# EAGLE library part MCP4131 (library SteelCaveRobotics-DigitalIC)
Microchip MCP41X1 SPI Digital POT
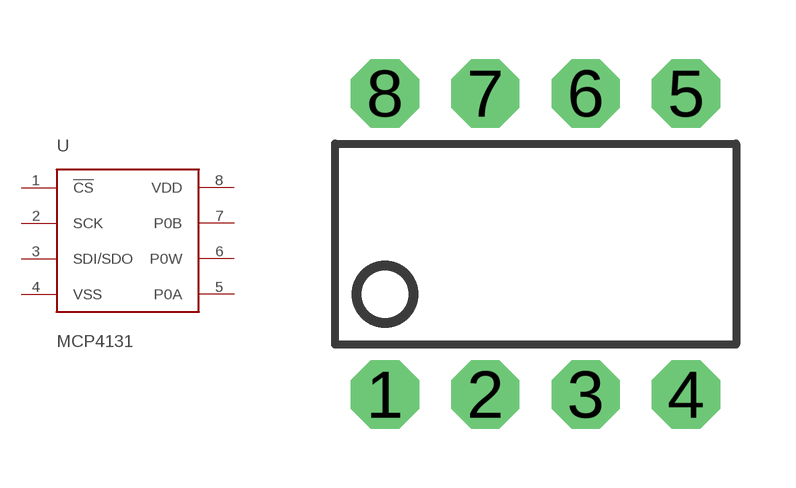
[diagram p0: symbol with the pads of DIP08; footprint DIP08]

Designator prefix -

## MCP4131  [DIP08]
1  !CS
2  SCK
3  SDI/SDO
4  VSS  pwr
5  P0A
6  P0W
7  P0B
8  VDD  pwr

## Footprint DIP08 (pad centres in mm)
Dual In Line Source: https://github.com/sparkfun/SparkFun-Eagle-Libraries/blob/master/SparkFun-DigitalIC.lbr
drill 0.813 pad 1.727 octagon: 1 -3.81,-3.81; 2 -1.27,-3.81; 3 1.27,-3.81; 4 3.81,-3.81; 5 3.81,3.81; 6 1.27,3.81; 7 -1.27,3.81; 8 -3.81,3.81